# Altium integrated library Altium_SMSI (rev19b).IntLib: 156 symbols (part 2 of 2)
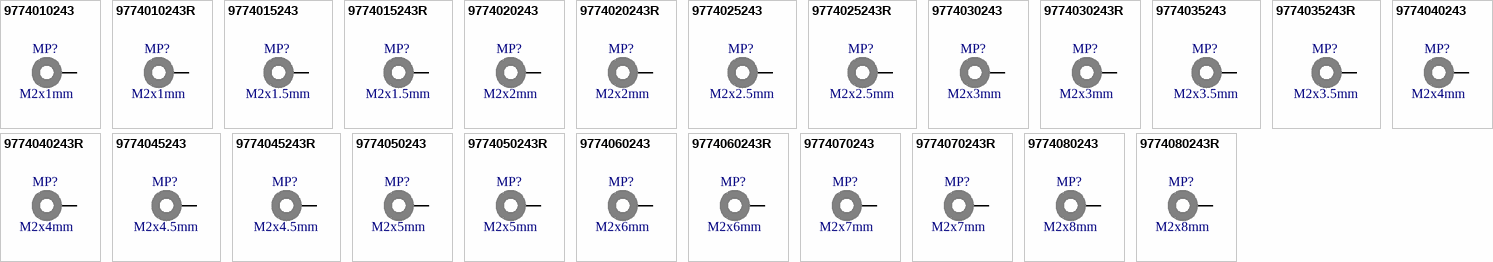
[diagram p6: symbols 9774010243 to 9774080243R]

## 9774010243
designator MP?, comment M2x1mm
WA-SMSI SMT Steel Spacer, OD4.35mm, M2x1mm; Part Number: 9774010243; Inner Diameter: 2.8mm; Outer Diameter: 4.35mm; Surface: Tin; Thread: M2; ComponentLink1Description: Manufacturer; ComponentLink1URL: http://www.we-online.de; ComponentLink2Description: Datasheet; ComponentLink2URL: https://katalog.we-online.com/em/datasheet/9774010243.pdf; Mounting Technology: SMT; Packaging: Bulk; Length: 1mm; Inner Thread Length: -; Operating Temperature: -55 to +150degC; Publisher: Wurth Elektronik; Published Date: September 2019; Material: Steel
footprint 9774010243
pins: 1

## 9774010243R
designator MP?, comment M2x1mm
WA-SMSI SMT Steel Spacer, OD4.35mm, M2x1mm; Part Number: 9774010243R; Inner Diameter: 2.8mm; Outer Diameter: 4.35mm; Surface: Tin; Thread: M2; ComponentLink1Description: Manufacturer; ComponentLink1URL: http://www.we-online.de; ComponentLink2Description: Datasheet; ComponentLink2URL: https://katalog.we-online.com/em/datasheet/9774010243R.pdf; Mounting Technology: SMT; Packaging: Tape and Reel; Length: 1mm; Inner Thread Length: -; Operating Temperature: -55 to +150degC; Publisher: Wurth Elektronik; Published Date: September 2019; Material: Steel
footprint 9774010243
pins: 1

## 9774015243
designator MP?, comment M2x1.5mm
WA-SMSI SMT Steel Spacer, OD4.35mm, M2x1.5mm; Part Number: 9774015243; Inner Diameter: 2.8mm; Outer Diameter: 4.35mm; Surface: Tin; Thread: M2; ComponentLink1Description: Manufacturer; ComponentLink1URL: http://www.we-online.de; ComponentLink2Description: Datasheet; ComponentLink2URL: https://katalog.we-online.com/em/datasheet/9774015243.pdf; Mounting Technology: SMT; Packaging: Bulk; Length: 1.5mm; Inner Thread Length: -; Operating Temperature: -55 to +150degC; Publisher: Wurth Elektronik; Published Date: September 2019; Material: Steel
footprint 9774015243
pins: 1

## 9774015243R
designator MP?, comment M2x1.5mm
WA-SMSI SMT Steel Spacer, OD4.35mm, M2x1.5mm; Part Number: 9774015243R; Inner Diameter: 2.8mm; Outer Diameter: 4.35mm; Surface: Tin; Thread: M2; ComponentLink1Description: Manufacturer; ComponentLink1URL: http://www.we-online.de; ComponentLink2Description: Datasheet; ComponentLink2URL: https://katalog.we-online.com/em/datasheet/9774015243R.pdf; Mounting Technology: SMT; Packaging: Tape and Reel; Length: 1.5mm; Inner Thread Length: -; Operating Temperature: -55 to +150degC; Publisher: Wurth Elektronik; Published Date: September 2019; Material: Steel
footprint 9774015243
pins: 1

## 9774020243
designator MP?, comment M2x2mm
WA-SMSI SMT Steel Spacer, OD4.35mm, M2x2mm; Part Number: 9774020243; Inner Diameter: 2.8mm; Outer Diameter: 4.35mm; Surface: Tin; Thread: M2; ComponentLink1Description: Manufacturer; ComponentLink1URL: http://www.we-online.de; ComponentLink2Description: Datasheet; ComponentLink2URL: https://katalog.we-online.com/em/datasheet/9774020243.pdf; Mounting Technology: SMT; Packaging: Bulk; Length: 2mm; Inner Thread Length: -; Operating Temperature: -55 to +150degC; Publisher: Wurth Elektronik; Published Date: September 2019; Material: Steel
footprint 9774020243
pins: 1

## 9774020243R
designator MP?, comment M2x2mm
WA-SMSI SMT Steel Spacer, OD4.35mm, M2x2mm; Part Number: 9774020243R; Inner Diameter: 2.8mm; Outer Diameter: 4.35mm; Surface: Tin; Thread: M2; ComponentLink1Description: Manufacturer; ComponentLink1URL: http://www.we-online.de; ComponentLink2Description: Datasheet; ComponentLink2URL: https://katalog.we-online.com/em/datasheet/9774020243R.pdf; Mounting Technology: SMT; Packaging: Tape and Reel; Length: 2mm; Inner Thread Length: -; Operating Temperature: -55 to +150degC; Publisher: Wurth Elektronik; Published Date: September 2019; Material: Steel
footprint 9774020243
pins: 1

## 9774025243
designator MP?, comment M2x2.5mm
WA-SMSI SMT Steel Spacer, OD4.35mm, M2x2.5mm; Part Number: 9774025243; Inner Diameter: 2.8mm; Outer Diameter: 4.35mm; Surface: Tin; Thread: M2; ComponentLink1Description: Manufacturer; ComponentLink1URL: http://www.we-online.de; ComponentLink2Description: Datasheet; ComponentLink2URL: https://katalog.we-online.com/em/datasheet/9774025243.pdf; Mounting Technology: SMT; Packaging: Bulk; Length: 2.5mm; Inner Thread Length: -; Operating Temperature: -55 to +150degC; Publisher: Wurth Elektronik; Published Date: September 2019; Material: Steel
footprint 9774025243
pins: 1

## 9774025243R
designator MP?, comment M2x2.5mm
WA-SMSI SMT Steel Spacer, OD4.35mm, M2x2.5mm; Part Number: 9774025243R; Inner Diameter: 2.8mm; Outer Diameter: 4.35mm; Surface: Tin; Thread: M2; ComponentLink1Description: Manufacturer; ComponentLink1URL: http://www.we-online.de; ComponentLink2Description: Datasheet; ComponentLink2URL: https://katalog.we-online.com/em/datasheet/9774025243R.pdf; Mounting Technology: SMT; Packaging: Tape and Reel; Length: 2.5mm; Inner Thread Length: -; Operating Temperature: -55 to +150degC; Publisher: Wurth Elektronik; Published Date: September 2019; Material: Steel
footprint 9774025243
pins: 1

## 9774030243
designator MP?, comment M2x3mm
WA-SMSI SMT Steel Spacer, OD4.35mm, M2x3mm; Part Number: 9774030243; Inner Diameter: 2.8mm; Outer Diameter: 4.35mm; Surface: Tin; Thread: M2; ComponentLink1Description: Manufacturer; ComponentLink1URL: http://www.we-online.de; ComponentLink2Description: Datasheet; ComponentLink2URL: https://katalog.we-online.com/em/datasheet/9774030243.pdf; Mounting Technology: SMT; Packaging: Bulk; Length: 3mm; Inner Thread Length: -; Operating Temperature: -55 to +150degC; Publisher: Wurth Elektronik; Published Date: September 2019; Material: Steel
footprint 9774030243
pins: 1

## 9774030243R
designator MP?, comment M2x3mm
WA-SMSI SMT Steel Spacer, OD4.35mm, M2x3mm; Part Number: 9774030243R; Inner Diameter: 2.8mm; Outer Diameter: 4.35mm; Surface: Tin; Thread: M2; ComponentLink1Description: Manufacturer; ComponentLink1URL: http://www.we-online.de; ComponentLink2Description: Datasheet; ComponentLink2URL: https://katalog.we-online.com/em/datasheet/9774030243R.pdf; Mounting Technology: SMT; Packaging: Tape and Reel; Length: 3mm; Inner Thread Length: -; Operating Temperature: -55 to +150degC; Publisher: Wurth Elektronik; Published Date: September 2019; Material: Steel
footprint 9774030243
pins: 1

## 9774035243
designator MP?, comment M2x3.5mm
WA-SMSI SMT Steel Spacer, OD4.35mm, M2x3.5mm; Part Number: 9774035243; Inner Diameter: 2.8mm; Outer Diameter: 4.35mm; Surface: Tin; Thread: M2; ComponentLink1Description: Manufacturer; ComponentLink1URL: http://www.we-online.de; ComponentLink2Description: Datasheet; ComponentLink2URL: https://katalog.we-online.com/em/datasheet/9774035243.pdf; Mounting Technology: SMT; Packaging: Bulk; Length: 3.5mm; Inner Thread Length: -; Operating Temperature: -55 to +150degC; Publisher: Wurth Elektronik; Published Date: September 2019; Material: Steel
footprint 9774035243
pins: 1

## 9774035243R
designator MP?, comment M2x3.5mm
WA-SMSI SMT Steel Spacer, OD4.35mm, M2x3.5mm; Part Number: 9774035243R; Inner Diameter: 2.8mm; Outer Diameter: 4.35mm; Surface: Tin; Thread: M2; ComponentLink1Description: Manufacturer; ComponentLink1URL: http://www.we-online.de; ComponentLink2Description: Datasheet; ComponentLink2URL: https://katalog.we-online.com/em/datasheet/9774035243R.pdf; Mounting Technology: SMT; Packaging: Tape and Reel; Length: 3.5mm; Inner Thread Length: -; Operating Temperature: -55 to +150degC; Publisher: Wurth Elektronik; Published Date: September 2019; Material: Steel
footprint 9774035243
pins: 1

## 9774040243
designator MP?, comment M2x4mm
WA-SMSI SMT Steel Spacer, OD4.35mm, M2x4mm; Part Number: 9774040243; Inner Diameter: 2.8mm; Outer Diameter: 4.35mm; Surface: Tin; Thread: M2; ComponentLink1Description: Manufacturer; ComponentLink1URL: http://www.we-online.de; ComponentLink2Description: Datasheet; ComponentLink2URL: https://katalog.we-online.com/em/datasheet/9774040243.pdf; Mounting Technology: SMT; Packaging: Bulk; Length: 4mm; Inner Thread Length: -; Operating Temperature: -55 to +150degC; Publisher: Wurth Elektronik; Published Date: September 2019; Material: Steel
footprint 9774040243
pins: 1

## 9774040243R
designator MP?, comment M2x4mm
WA-SMSI SMT Steel Spacer, OD4.35mm, M2x4mm; Part Number: 9774040243R; Inner Diameter: 2.8mm; Outer Diameter: 4.35mm; Surface: Tin; Thread: M2; ComponentLink1Description: Manufacturer; ComponentLink1URL: http://www.we-online.de; ComponentLink2Description: Datasheet; ComponentLink2URL: https://katalog.we-online.com/em/datasheet/9774040243R.pdf; Mounting Technology: SMT; Packaging: Tape and Reel; Length: 4mm; Inner Thread Length: -; Operating Temperature: -55 to +150degC; Publisher: Wurth Elektronik; Published Date: September 2019; Material: Steel
footprint 9774040243
pins: 1

## 9774045243
designator MP?, comment M2x4.5mm
WA-SMSI SMT Steel Spacer, OD4.35mm, M2x4.5mm; Part Number: 9774045243; Inner Diameter: 2.8mm; Outer Diameter: 4.35mm; Surface: Tin; Thread: M2; ComponentLink1Description: Manufacturer; ComponentLink1URL: http://www.we-online.de; ComponentLink2Description: Datasheet; ComponentLink2URL: https://katalog.we-online.com/em/datasheet/9774045243.pdf; Mounting Technology: SMT; Packaging: Bulk; Length: 4.5mm; Inner Thread Length: -; Operating Temperature: -55 to +150degC; Publisher: Wurth Elektronik; Published Date: September 2019; Material: Steel
footprint 9774045243
pins: 1

## 9774045243R
designator MP?, comment M2x4.5mm
WA-SMSI SMT Steel Spacer, OD4.35mm, M2x4.5mm; Part Number: 9774045243R; Inner Diameter: 2.8mm; Outer Diameter: 4.35mm; Surface: Tin; Thread: M2; ComponentLink1Description: Manufacturer; ComponentLink1URL: http://www.we-online.de; ComponentLink2Description: Datasheet; ComponentLink2URL: https://katalog.we-online.com/em/datasheet/9774045243R.pdf; Mounting Technology: SMT; Packaging: Tape and Reel; Length: 4.5mm; Inner Thread Length: -; Operating Temperature: -55 to +150degC; Publisher: Wurth Elektronik; Published Date: September 2019; Material: Steel
footprint 9774045243
pins: 1

## 9774050243
designator MP?, comment M2x5mm
WA-SMSI SMT Steel Spacer, OD4.35mm, M2x5mm; Part Number: 9774050243; Inner Diameter: 2.8mm; Outer Diameter: 4.35mm; Surface: Tin; Thread: M2; ComponentLink1Description: Manufacturer; ComponentLink1URL: http://www.we-online.de; ComponentLink2Description: Datasheet; ComponentLink2URL: https://katalog.we-online.com/em/datasheet/9774050243.pdf; Mounting Technology: SMT; Packaging: Bulk; Length: 5mm; Inner Thread Length: -; Operating Temperature: -55 to +150degC; Publisher: Wurth Elektronik; Published Date: September 2019; Material: Steel
footprint 9774050243
pins: 1

## 9774050243R
designator MP?, comment M2x5mm
WA-SMSI SMT Steel Spacer, OD4.35mm, M2x5mm; Part Number: 9774050243R; Inner Diameter: 2.8mm; Outer Diameter: 4.35mm; Surface: Tin; Thread: M2; ComponentLink1Description: Manufacturer; ComponentLink1URL: http://www.we-online.de; ComponentLink2Description: Datasheet; ComponentLink2URL: https://katalog.we-online.com/em/datasheet/9774050243R.pdf; Mounting Technology: SMT; Packaging: Tape and Reel; Length: 5mm; Inner Thread Length: -; Operating Temperature: -55 to +150degC; Publisher: Wurth Elektronik; Published Date: September 2019; Material: Steel
footprint 9774050243
pins: 1

## 9774060243
designator MP?, comment M2x6mm
WA-SMSI SMT Steel Spacer, OD4.35mm, M2x6mm; Part Number: 9774060243; Inner Diameter: 2.8mm; Outer Diameter: 4.35mm; Surface: Tin; Thread: M2; ComponentLink1Description: Manufacturer; ComponentLink1URL: http://www.we-online.de; ComponentLink2Description: Datasheet; ComponentLink2URL: https://katalog.we-online.com/em/datasheet/9774060243.pdf; Mounting Technology: SMT; Packaging: Bulk; Length: 6mm; Inner Thread Length: -; Operating Temperature: -55 to +150degC; Publisher: Wurth Elektronik; Published Date: September 2019; Material: Steel
footprint 9774060243
pins: 1

## 9774060243R
designator MP?, comment M2x6mm
WA-SMSI SMT Steel Spacer, OD4.35mm, M2x6mm; Part Number: 9774060243R; Inner Diameter: 2.8mm; Outer Diameter: 4.35mm; Surface: Tin; Thread: M2; ComponentLink1Description: Manufacturer; ComponentLink1URL: http://www.we-online.de; ComponentLink2Description: Datasheet; ComponentLink2URL: https://katalog.we-online.com/em/datasheet/9774060243R.pdf; Mounting Technology: SMT; Packaging: Tape and Reel; Length: 6mm; Inner Thread Length: -; Operating Temperature: -55 to +150degC; Publisher: Wurth Elektronik; Published Date: September 2019; Material: Steel
footprint 9774060243
pins: 1

## 9774070243
designator MP?, comment M2x7mm
WA-SMSI SMT Steel Spacer, OD4.35mm, M2x7mm; Part Number: 9774070243; Inner Diameter: 2.8mm; Outer Diameter: 4.35mm; Surface: Tin; Thread: M2; ComponentLink1Description: Manufacturer; ComponentLink1URL: http://www.we-online.de; ComponentLink2Description: Datasheet; ComponentLink2URL: https://katalog.we-online.com/em/datasheet/9774070243.pdf; Mounting Technology: SMT; Packaging: Bulk; Length: 7mm; Inner Thread Length: -; Operating Temperature: -55 to +150degC; Publisher: Wurth Elektronik; Published Date: September 2019; Material: Steel
footprint 9774070243
pins: 1

## 9774070243R
designator MP?, comment M2x7mm
WA-SMSI SMT Steel Spacer, OD4.35mm, M2x7mm; Part Number: 9774070243R; Inner Diameter: 2.8mm; Outer Diameter: 4.35mm; Surface: Tin; Thread: M2; ComponentLink1Description: Manufacturer; ComponentLink1URL: http://www.we-online.de; ComponentLink2Description: Datasheet; ComponentLink2URL: https://katalog.we-online.com/em/datasheet/9774070243R.pdf; Mounting Technology: SMT; Packaging: Tape and Reel; Length: 7mm; Inner Thread Length: -; Operating Temperature: -55 to +150degC; Publisher: Wurth Elektronik; Published Date: September 2019; Material: Steel
footprint 9774070243
pins: 1

## 9774080243
designator MP?, comment M2x8mm
WA-SMSI SMT Steel Spacer, OD4.35mm, M2x8mm; Part Number: 9774080243; Inner Diameter: 2.8mm; Outer Diameter: 4.35mm; Surface: Tin; Thread: M2; ComponentLink1Description: Manufacturer; ComponentLink1URL: http://www.we-online.de; ComponentLink2Description: Datasheet; ComponentLink2URL: https://katalog.we-online.com/em/datasheet/9774080243.pdf; Mounting Technology: SMT; Packaging: Bulk; Length: 8mm; Inner Thread Length: -; Operating Temperature: -55 to +150degC; Publisher: Wurth Elektronik; Published Date: September 2019; Material: Steel
footprint 9774080243
pins: 1

## 9774080243R
designator MP?, comment M2x8mm
WA-SMSI SMT Steel Spacer, OD4.35mm, M2x8mm; Part Number: 9774080243R; Inner Diameter: 2.8mm; Outer Diameter: 4.35mm; Surface: Tin; Thread: M2; ComponentLink1Description: Manufacturer; ComponentLink1URL: http://www.we-online.de; ComponentLink2Description: Datasheet; ComponentLink2URL: https://katalog.we-online.com/em/datasheet/9774080243R.pdf; Mounting Technology: SMT; Packaging: Tape and Reel; Length: 8mm; Inner Thread Length: -; Operating Temperature: -55 to +150degC; Publisher: Wurth Elektronik; Published Date: September 2019; Material: Steel
footprint 9774080243
pins: 1


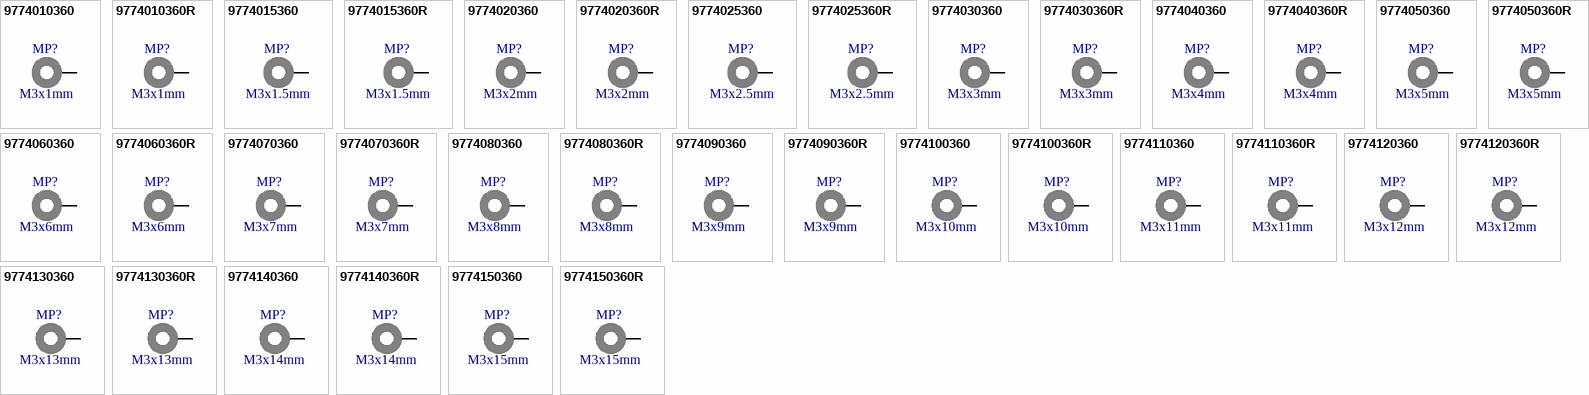
[diagram p4: symbols 9774010360 to 9774150360R]

## 9774010360
designator MP?, comment M3x1mm
WA-SMSI SMT Steel Spacer, OD6mm, M3x1mm; Part Number: 9774010360; Inner Diameter: 4.2mm; Outer Diameter: 6mm; Surface: Tin; Thread: M3; ComponentLink1Description: Manufacturer; ComponentLink1URL: http://www.we-online.de; ComponentLink2Description: Datasheet; ComponentLink2URL: https://katalog.we-online.com/em/datasheet/9774010360.pdf; Mounting Technology: SMT; Packaging: Bulk; Length: 1mm; Inner Thread Length: -; Operating Temperature: -55 to +150degC; Publisher: Wurth Elektronik; Published Date: September 2019; Material: Steel
footprint 9774010360
pins: 1

## 9774010360R
designator MP?, comment M3x1mm
WA-SMSI SMT Steel Spacer, OD6mm, M3x1mm; Part Number: 9774010360R; Inner Diameter: 4.2mm; Outer Diameter: 6mm; Surface: Tin; Thread: M3; ComponentLink1Description: Manufacturer; ComponentLink1URL: http://www.we-online.de; ComponentLink2Description: Datasheet; ComponentLink2URL: https://katalog.we-online.com/em/datasheet/9774010360R.pdf; Mounting Technology: SMT; Packaging: Tape and Reel; Length: 1mm; Inner Thread Length: -; Operating Temperature: -55 to +150degC; Publisher: Wurth Elektronik; Published Date: September 2019; Material: Steel
footprint 9774010360
pins: 1

## 9774015360
designator MP?, comment M3x1.5mm
WA-SMSI SMT Steel Spacer, OD6mm, M3x1.5mm; Part Number: 9774015360; Inner Diameter: 4.2mm; Outer Diameter: 6mm; Surface: Tin; Thread: M3; ComponentLink1Description: Manufacturer; ComponentLink1URL: http://www.we-online.de; ComponentLink2Description: Datasheet; ComponentLink2URL: https://katalog.we-online.com/em/datasheet/9774015360.pdf; Mounting Technology: SMT; Packaging: Bulk; Length: 1.5mm; Inner Thread Length: -; Operating Temperature: -55 to +150degC; Publisher: Wurth Elektronik; Published Date: September 2019; Material: Steel
footprint 9774015360
pins: 1

## 9774015360R
designator MP?, comment M3x1.5mm
WA-SMSI SMT Steel Spacer, OD6mm, M3x1.5mm; Part Number: 9774015360R; Inner Diameter: 4.2mm; Outer Diameter: 6mm; Surface: Tin; Thread: M3; ComponentLink1Description: Manufacturer; ComponentLink1URL: http://www.we-online.de; ComponentLink2Description: Datasheet; ComponentLink2URL: https://katalog.we-online.com/em/datasheet/9774015360R.pdf; Mounting Technology: SMT; Packaging: Tape and Reel; Length: 1.5mm; Inner Thread Length: -; Operating Temperature: -55 to +150degC; Publisher: Wurth Elektronik; Published Date: September 2019; Material: Steel
footprint 9774015360
pins: 1

## 9774020360
designator MP?, comment M3x2mm
WA-SMSI SMT Steel Spacer, OD6mm, M3x2mm; Part Number: 9774020360; Inner Diameter: 4.2mm; Outer Diameter: 6mm; Surface: Tin; Thread: M3; ComponentLink1Description: Manufacturer; ComponentLink1URL: http://www.we-online.de; ComponentLink2Description: Datasheet; ComponentLink2URL: https://katalog.we-online.com/em/datasheet/9774020360.pdf; Mounting Technology: SMT; Packaging: Bulk; Length: 2mm; Inner Thread Length: -; Operating Temperature: -55 to +150degC; Publisher: Wurth Elektronik; Published Date: September 2019; Material: Steel
footprint 9774020360
pins: 1

## 9774020360R
designator MP?, comment M3x2mm
WA-SMSI SMT Steel Spacer, OD6mm, M3x2mm; Part Number: 9774020360R; Inner Diameter: 4.2mm; Outer Diameter: 6mm; Surface: Tin; Thread: M3; ComponentLink1Description: Manufacturer; ComponentLink1URL: http://www.we-online.de; ComponentLink2Description: Datasheet; ComponentLink2URL: https://katalog.we-online.com/em/datasheet/9774020360R.pdf; Mounting Technology: SMT; Packaging: Tape and Reel; Length: 2mm; Inner Thread Length: -; Operating Temperature: -55 to +150degC; Publisher: Wurth Elektronik; Published Date: September 2019; Material: Steel
footprint 9774020360
pins: 1

## 9774025360
designator MP?, comment M3x2.5mm
WA-SMSI SMT Steel Spacer, OD6mm, M3x2.5mm; Part Number: 9774025360; Inner Diameter: 4.2mm; Outer Diameter: 6mm; Surface: Tin; Thread: M3; ComponentLink1Description: Manufacturer; ComponentLink1URL: http://www.we-online.de; ComponentLink2Description: Datasheet; ComponentLink2URL: https://katalog.we-online.com/em/datasheet/9774025360.pdf; Mounting Technology: SMT; Packaging: Bulk; Length: 2.5mm; Inner Thread Length: -; Operating Temperature: -55 to +150degC; Publisher: Wurth Elektronik; Published Date: September 2019; Material: Steel
footprint 9774025360
pins: 1

## 9774025360R
designator MP?, comment M3x2.5mm
WA-SMSI SMT Steel Spacer, OD6mm, M3x2.5mm; Part Number: 9774025360R; Inner Diameter: 4.2mm; Outer Diameter: 6mm; Surface: Tin; Thread: M3; ComponentLink1Description: Manufacturer; ComponentLink1URL: http://www.we-online.de; ComponentLink2Description: Datasheet; ComponentLink2URL: https://katalog.we-online.com/em/datasheet/9774025360R.pdf; Mounting Technology: SMT; Packaging: Tape and Reel; Length: 2.5mm; Inner Thread Length: -; Operating Temperature: -55 to +150degC; Publisher: Wurth Elektronik; Published Date: September 2019; Material: Steel
footprint 9774025360
pins: 1

## 9774030360
designator MP?, comment M3x3mm
WA-SMSI SMT Steel Spacer, OD6mm, M3x3mm; Part Number: 9774030360; Inner Diameter: 4.2mm; Outer Diameter: 6mm; Surface: Tin; Thread: M3; ComponentLink1Description: Manufacturer; ComponentLink1URL: http://www.we-online.de; ComponentLink2Description: Datasheet; ComponentLink2URL: https://katalog.we-online.com/em/datasheet/9774030360.pdf; Mounting Technology: SMT; Packaging: Bulk; Length: 3mm; Inner Thread Length: -; Operating Temperature: -55 to +150degC; Publisher: Wurth Elektronik; Published Date: September 2019; Material: Steel
footprint 9774030360
pins: 1

## 9774030360R
designator MP?, comment M3x3mm
WA-SMSI SMT Steel Spacer, OD6mm, M3x3mm; Part Number: 9774030360R; Inner Diameter: 4.2mm; Outer Diameter: 6mm; Surface: Tin; Thread: M3; ComponentLink1Description: Manufacturer; ComponentLink1URL: http://www.we-online.de; ComponentLink2Description: Datasheet; ComponentLink2URL: https://katalog.we-online.com/em/datasheet/9774030360R.pdf; Mounting Technology: SMT; Packaging: Tape and Reel; Length: 3mm; Inner Thread Length: -; Operating Temperature: -55 to +150degC; Publisher: Wurth Elektronik; Published Date: September 2019; Material: Steel
footprint 9774030360
pins: 1

## 9774040360
designator MP?, comment M3x4mm
WA-SMSI SMT Steel Spacer, OD6mm, M3x4mm; Part Number: 9774040360; Inner Diameter: 4.2mm; Outer Diameter: 6mm; Surface: Tin; Thread: M3; ComponentLink1Description: Manufacturer; ComponentLink1URL: http://www.we-online.de; ComponentLink2Description: Datasheet; ComponentLink2URL: https://katalog.we-online.com/em/datasheet/9774040360.pdf; Mounting Technology: SMT; Packaging: Bulk; Length: 4mm; Inner Thread Length: -; Operating Temperature: -55 to +150degC; Publisher: Wurth Elektronik; Published Date: September 2019; Material: Steel
footprint 9774040360
pins: 1

## 9774040360R
designator MP?, comment M3x4mm
WA-SMSI SMT Steel Spacer, OD6mm, M3x4mm; Part Number: 9774040360R; Inner Diameter: 4.2mm; Outer Diameter: 6mm; Surface: Tin; Thread: M3; ComponentLink1Description: Manufacturer; ComponentLink1URL: http://www.we-online.de; ComponentLink2Description: Datasheet; ComponentLink2URL: https://katalog.we-online.com/em/datasheet/9774040360R.pdf; Mounting Technology: SMT; Packaging: Tape and Reel; Length: 4mm; Inner Thread Length: -; Operating Temperature: -55 to +150degC; Publisher: Wurth Elektronik; Published Date: September 2019; Material: Steel
footprint 9774040360
pins: 1

## 9774050360
designator MP?, comment M3x5mm
WA-SMSI SMT Steel Spacer, OD6mm, M3x5mm; Part Number: 9774050360; Inner Diameter: 4.2mm; Outer Diameter: 6mm; Surface: Tin; Thread: M3; ComponentLink1Description: Manufacturer; ComponentLink1URL: http://www.we-online.de; ComponentLink2Description: Datasheet; ComponentLink2URL: https://katalog.we-online.com/em/datasheet/9774050360.pdf; Mounting Technology: SMT; Packaging: Bulk; Length: 5mm; Inner Thread Length: -; Operating Temperature: -55 to +150degC; Publisher: Wurth Elektronik; Published Date: September 2019; Material: Steel
footprint 9774050360
pins: 1

## 9774050360R
designator MP?, comment M3x5mm
WA-SMSI SMT Steel Spacer, OD6mm, M3x5mm; Part Number: 9774050360R; Inner Diameter: 4.2mm; Outer Diameter: 6mm; Surface: Tin; Thread: M3; ComponentLink1Description: Manufacturer; ComponentLink1URL: http://www.we-online.de; ComponentLink2Description: Datasheet; ComponentLink2URL: https://katalog.we-online.com/em/datasheet/9774050360R.pdf; Mounting Technology: SMT; Packaging: Tape and Reel; Length: 5mm; Inner Thread Length: -; Operating Temperature: -55 to +150degC; Publisher: Wurth Elektronik; Published Date: September 2019; Material: Steel
footprint 9774050360
pins: 1

## 9774060360
designator MP?, comment M3x6mm
WA-SMSI SMT Steel Spacer, OD6mm, M3x6mm; Part Number: 9774060360; Inner Diameter: 4.2mm; Outer Diameter: 6mm; Surface: Tin; Thread: M3; ComponentLink1Description: Manufacturer; ComponentLink1URL: http://www.we-online.de; ComponentLink2Description: Datasheet; ComponentLink2URL: https://katalog.we-online.com/em/datasheet/9774060360.pdf; Mounting Technology: SMT; Packaging: Bulk; Length: 6mm; Inner Thread Length: -; Operating Temperature: -55 to +150degC; Publisher: Wurth Elektronik; Published Date: September 2019; Material: Steel
footprint 9774060360
pins: 1

## 9774060360R
designator MP?, comment M3x6mm
WA-SMSI SMT Steel Spacer, OD6mm, M3x6mm; Part Number: 9774060360R; Inner Diameter: 4.2mm; Outer Diameter: 6mm; Surface: Tin; Thread: M3; ComponentLink1Description: Manufacturer; ComponentLink1URL: http://www.we-online.de; ComponentLink2Description: Datasheet; ComponentLink2URL: https://katalog.we-online.com/em/datasheet/9774060360R.pdf; Mounting Technology: SMT; Packaging: Tape and Reel; Length: 6mm; Inner Thread Length: -; Operating Temperature: -55 to +150degC; Publisher: Wurth Elektronik; Published Date: September 2019; Material: Steel
footprint 9774060360
pins: 1

## 9774070360
designator MP?, comment M3x7mm
WA-SMSI SMT Steel Spacer, OD6mm, M3x7mm; Part Number: 9774070360; Inner Diameter: 4.2mm; Outer Diameter: 6mm; Surface: Tin; Thread: M3; ComponentLink1Description: Manufacturer; ComponentLink1URL: http://www.we-online.de; ComponentLink2Description: Datasheet; ComponentLink2URL: https://katalog.we-online.com/em/datasheet/9774070360.pdf; Mounting Technology: SMT; Packaging: Bulk; Length: 7mm; Inner Thread Length: -; Operating Temperature: -55 to +150degC; Publisher: Wurth Elektronik; Published Date: September 2019; Material: Steel
footprint 9774070360
pins: 1

## 9774070360R
designator MP?, comment M3x7mm
WA-SMSI SMT Steel Spacer, OD6mm, M3x7mm; Part Number: 9774070360R; Inner Diameter: 4.2mm; Outer Diameter: 6mm; Surface: Tin; Thread: M3; ComponentLink1Description: Manufacturer; ComponentLink1URL: http://www.we-online.de; ComponentLink2Description: Datasheet; ComponentLink2URL: https://katalog.we-online.com/em/datasheet/9774070360R.pdf; Mounting Technology: SMT; Packaging: Tape and Reel; Length: 7mm; Inner Thread Length: -; Operating Temperature: -55 to +150degC; Publisher: Wurth Elektronik; Published Date: September 2019; Material: Steel
footprint 9774070360
pins: 1

## 9774080360
designator MP?, comment M3x8mm
WA-SMSI SMT Steel Spacer, OD6mm, M3x8mm; Part Number: 9774080360; Inner Diameter: 4.2mm; Outer Diameter: 6mm; Surface: Tin; Thread: M3; ComponentLink1Description: Manufacturer; ComponentLink1URL: http://www.we-online.de; ComponentLink2Description: Datasheet; ComponentLink2URL: https://katalog.we-online.com/em/datasheet/9774080360.pdf; Mounting Technology: SMT; Packaging: Bulk; Length: 8mm; Inner Thread Length: -; Operating Temperature: -55 to +150degC; Publisher: Wurth Elektronik; Published Date: September 2019; Material: Steel
footprint 9774080360
pins: 1

## 9774080360R
designator MP?, comment M3x8mm
WA-SMSI SMT Steel Spacer, OD6mm, M3x8mm; Part Number: 9774080360R; Inner Diameter: 4.2mm; Outer Diameter: 6mm; Surface: Tin; Thread: M3; ComponentLink1Description: Manufacturer; ComponentLink1URL: http://www.we-online.de; ComponentLink2Description: Datasheet; ComponentLink2URL: https://katalog.we-online.com/em/datasheet/9774080360R.pdf; Mounting Technology: SMT; Packaging: Tape and Reel; Length: 8mm; Inner Thread Length: -; Operating Temperature: -55 to +150degC; Publisher: Wurth Elektronik; Published Date: September 2019; Material: Steel
footprint 9774080360
pins: 1

## 9774090360
designator MP?, comment M3x9mm
WA-SMSI SMT Steel Spacer, OD6mm, M3x9mm; Part Number: 9774090360; Inner Diameter: 4.2mm; Outer Diameter: 6mm; Surface: Tin; Thread: M3; ComponentLink1Description: Manufacturer; ComponentLink1URL: http://www.we-online.de; ComponentLink2Description: Datasheet; ComponentLink2URL: https://katalog.we-online.com/em/datasheet/9774090360.pdf; Mounting Technology: SMT; Packaging: Bulk; Length: 9mm; Inner Thread Length: -; Operating Temperature: -55 to +150degC; Publisher: Wurth Elektronik; Published Date: September 2019; Material: Steel
footprint 9774090360
pins: 1

## 9774090360R
designator MP?, comment M3x9mm
WA-SMSI SMT Steel Spacer, OD6mm, M3x9mm; Part Number: 9774090360R; Inner Diameter: 4.2mm; Outer Diameter: 6mm; Surface: Tin; Thread: M3; ComponentLink1Description: Manufacturer; ComponentLink1URL: http://www.we-online.de; ComponentLink2Description: Datasheet; ComponentLink2URL: https://katalog.we-online.com/em/datasheet/9774090360R.pdf; Mounting Technology: SMT; Packaging: Tape and Reel; Length: 9mm; Inner Thread Length: -; Operating Temperature: -55 to +150degC; Publisher: Wurth Elektronik; Published Date: September 2019; Material: Steel
footprint 9774090360
pins: 1

## 9774100360
designator MP?, comment M3x10mm
WA-SMSI SMT Steel Spacer, OD6mm, M3x10mm; Part Number: 9774100360; Inner Diameter: 4.2mm; Outer Diameter: 6mm; Surface: Tin; Thread: M3; ComponentLink1Description: Manufacturer; ComponentLink1URL: http://www.we-online.de; ComponentLink2Description: Datasheet; ComponentLink2URL: https://katalog.we-online.com/em/datasheet/9774100360.pdf; Mounting Technology: SMT; Packaging: Bulk; Length: 10mm; Inner Thread Length: -; Operating Temperature: -55 to +150degC; Publisher: Wurth Elektronik; Published Date: September 2019; Material: Steel
footprint 9774100360
pins: 1

## 9774100360R
designator MP?, comment M3x10mm
WA-SMSI SMT Steel Spacer, OD6mm, M3x10mm; Part Number: 9774100360R; Inner Diameter: 4.2mm; Outer Diameter: 6mm; Surface: Tin; Thread: M3; ComponentLink1Description: Manufacturer; ComponentLink1URL: http://www.we-online.de; ComponentLink2Description: Datasheet; ComponentLink2URL: https://katalog.we-online.com/em/datasheet/9774100360R.pdf; Mounting Technology: SMT; Packaging: Tape and Reel; Length: 10mm; Inner Thread Length: -; Operating Temperature: -55 to +150degC; Publisher: Wurth Elektronik; Published Date: September 2019; Material: Steel
footprint 9774100360
pins: 1

## 9774110360
designator MP?, comment M3x11mm
WA-SMSI SMT Steel Spacer, OD6mm, M3x11mm; Part Number: 9774110360; Inner Diameter: 4.2mm; Outer Diameter: 6mm; Surface: Tin; Thread: M3; ComponentLink1Description: Manufacturer; ComponentLink1URL: http://www.we-online.de; ComponentLink2Description: Datasheet; ComponentLink2URL: https://katalog.we-online.com/em/datasheet/9774110360.pdf; Mounting Technology: SMT; Packaging: Bulk; Length: 11mm; Inner Thread Length: -; Operating Temperature: -55 to +150degC; Publisher: Wurth Elektronik; Published Date: September 2019; Material: Steel
footprint 9774110360
pins: 1

## 9774110360R
designator MP?, comment M3x11mm
WA-SMSI SMT Steel Spacer, OD6mm, M3x11mm; Part Number: 9774110360R; Inner Diameter: 4.2mm; Outer Diameter: 6mm; Surface: Tin; Thread: M3; ComponentLink1Description: Manufacturer; ComponentLink1URL: http://www.we-online.de; ComponentLink2Description: Datasheet; ComponentLink2URL: https://katalog.we-online.com/em/datasheet/9774110360R.pdf; Mounting Technology: SMT; Packaging: Tape and Reel; Length: 11mm; Inner Thread Length: -; Operating Temperature: -55 to +150degC; Publisher: Wurth Elektronik; Published Date: September 2019; Material: Steel
footprint 9774110360
pins: 1

## 9774120360
designator MP?, comment M3x12mm
WA-SMSI SMT Steel Spacer, OD6mm, M3x12mm; Part Number: 9774120360; Inner Diameter: 4.2mm; Outer Diameter: 6mm; Surface: Tin; Thread: M3; ComponentLink1Description: Manufacturer; ComponentLink1URL: http://www.we-online.de; ComponentLink2Description: Datasheet; ComponentLink2URL: https://katalog.we-online.com/em/datasheet/9774120360.pdf; Mounting Technology: SMT; Packaging: Bulk; Length: 12mm; Inner Thread Length: -; Operating Temperature: -55 to +150degC; Publisher: Wurth Elektronik; Published Date: September 2019; Material: Steel
footprint 9774120360
pins: 1

## 9774120360R
designator MP?, comment M3x12mm
WA-SMSI SMT Steel Spacer, OD6mm, M3x12mm; Part Number: 9774120360R; Inner Diameter: 4.2mm; Outer Diameter: 6mm; Surface: Tin; Thread: M3; ComponentLink1Description: Manufacturer; ComponentLink1URL: http://www.we-online.de; ComponentLink2Description: Datasheet; ComponentLink2URL: https://katalog.we-online.com/em/datasheet/9774120360R.pdf; Mounting Technology: SMT; Packaging: Tape and Reel; Length: 12mm; Inner Thread Length: -; Operating Temperature: -55 to +150degC; Publisher: Wurth Elektronik; Published Date: September 2019; Material: Steel
footprint 9774120360
pins: 1

## 9774130360
designator MP?, comment M3x13mm
WA-SMSI SMT Steel Spacer, OD6mm, M3x13mm; Part Number: 9774130360; Inner Diameter: 4.2mm; Outer Diameter: 6mm; Surface: Tin; Thread: M3; ComponentLink1Description: Manufacturer; ComponentLink1URL: http://www.we-online.de; ComponentLink2Description: Datasheet; ComponentLink2URL: https://katalog.we-online.com/em/datasheet/9774130360.pdf; Mounting Technology: SMT; Packaging: Bulk; Length: 13mm; Inner Thread Length: -; Operating Temperature: -55 to +150degC; Publisher: Wurth Elektronik; Published Date: September 2019; Material: Steel
footprint 9774130360
pins: 1

## 9774130360R
designator MP?, comment M3x13mm
WA-SMSI SMT Steel Spacer, OD6mm, M3x13mm; Part Number: 9774130360R; Inner Diameter: 4.2mm; Outer Diameter: 6mm; Surface: Tin; Thread: M3; ComponentLink1Description: Manufacturer; ComponentLink1URL: http://www.we-online.de; ComponentLink2Description: Datasheet; ComponentLink2URL: https://katalog.we-online.com/em/datasheet/9774130360R.pdf; Mounting Technology: SMT; Packaging: Tape and Reel; Length: 13mm; Inner Thread Length: -; Operating Temperature: -55 to +150degC; Publisher: Wurth Elektronik; Published Date: September 2019; Material: Steel
footprint 9774130360
pins: 1

## 9774140360
designator MP?, comment M3x14mm
WA-SMSI SMT Steel Spacer, OD6mm, M3x14mm; Part Number: 9774140360; Inner Diameter: 4.2mm; Outer Diameter: 6mm; Surface: Tin; Thread: M3; ComponentLink1Description: Manufacturer; ComponentLink1URL: http://www.we-online.de; ComponentLink2Description: Datasheet; ComponentLink2URL: https://katalog.we-online.com/em/datasheet/9774140360.pdf; Mounting Technology: SMT; Packaging: Bulk; Length: 14mm; Inner Thread Length: -; Operating Temperature: -55 to +150degC; Publisher: Wurth Elektronik; Published Date: September 2019; Material: Steel
footprint 9774140360
pins: 1

## 9774140360R
designator MP?, comment M3x14mm
WA-SMSI SMT Steel Spacer, OD6mm, M3x14mm; Part Number: 9774140360R; Inner Diameter: 4.2mm; Outer Diameter: 6mm; Surface: Tin; Thread: M3; ComponentLink1Description: Manufacturer; ComponentLink1URL: http://www.we-online.de; ComponentLink2Description: Datasheet; ComponentLink2URL: https://katalog.we-online.com/em/datasheet/9774140360R.pdf; Mounting Technology: SMT; Packaging: Tape and Reel; Length: 14mm; Inner Thread Length: -; Operating Temperature: -55 to +150degC; Publisher: Wurth Elektronik; Published Date: September 2019; Material: Steel
footprint 9774140360
pins: 1

## 9774150360
designator MP?, comment M3x15mm
WA-SMSI SMT Steel Spacer, OD6mm, M3x15mm; Part Number: 9774150360; Inner Diameter: 4.2mm; Outer Diameter: 6mm; Surface: Tin; Thread: M3; ComponentLink1Description: Manufacturer; ComponentLink1URL: http://www.we-online.de; ComponentLink2Description: Datasheet; ComponentLink2URL: https://katalog.we-online.com/em/datasheet/9774150360.pdf; Mounting Technology: SMT; Packaging: Bulk; Length: 15mm; Inner Thread Length: -; Operating Temperature: -55 to +150degC; Publisher: Wurth Elektronik; Published Date: September 2019; Material: Steel
footprint 9774150360
pins: 1

## 9774150360R
designator MP?, comment M3x15mm
WA-SMSI SMT Steel Spacer, OD6mm, M3x15mm; Part Number: 9774150360R; Inner Diameter: 4.2mm; Outer Diameter: 6mm; Surface: Tin; Thread: M3; ComponentLink1Description: Manufacturer; ComponentLink1URL: http://www.we-online.de; ComponentLink2Description: Datasheet; ComponentLink2URL: https://katalog.we-online.com/em/datasheet/9774150360R.pdf; Mounting Technology: SMT; Packaging: Tape and Reel; Length: 15mm; Inner Thread Length: -; Operating Temperature: -55 to +150degC; Publisher: Wurth Elektronik; Published Date: September 2019; Material: Steel
footprint 9774150360
pins: 1


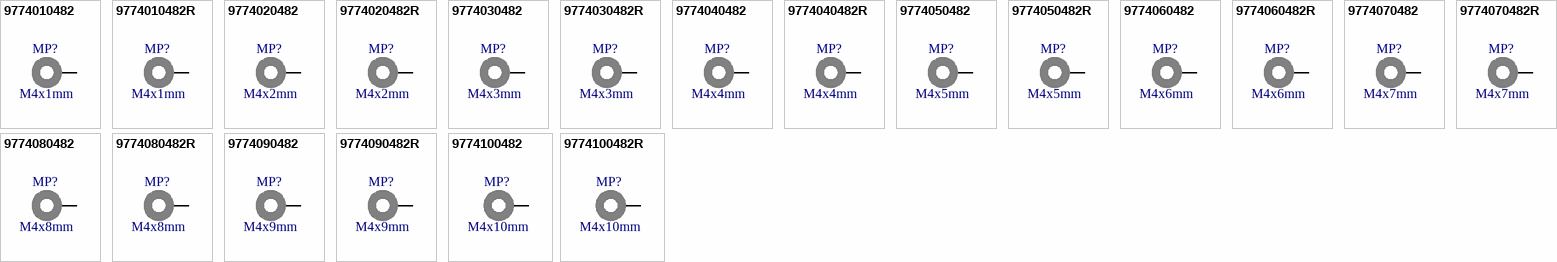
[diagram p5: symbols 9774010482 to 9774100482R]

## 9774010482
designator MP?, comment M4x1mm
WA-SMSI SMT Steel Spacer, OD8.2mm, M4x1mm; Part Number: 9774010482; Inner Diameter: 5.2mm; Outer Diameter: 8.2mm; Surface: Tin; Thread: M4; ComponentLink1Description: Manufacturer; ComponentLink1URL: http://www.we-online.de; ComponentLink2Description: Datasheet; ComponentLink2URL: https://katalog.we-online.com/em/datasheet/9774010482.pdf; Mounting Technology: SMT; Packaging: Bulk; Length: 1mm; Inner Thread Length: -; Operating Temperature: -55 to +150degC; Publisher: Wurth Elektronik; Published Date: September 2019; Material: Steel
footprint 9774010482
pins: 1

## 9774010482R
designator MP?, comment M4x1mm
WA-SMSI SMT Steel Spacer, OD8.2mm, M4x1mm; Part Number: 9774010482R; Inner Diameter: 5.2mm; Outer Diameter: 8.2mm; Surface: Tin; Thread: M4; ComponentLink1Description: Manufacturer; ComponentLink1URL: http://www.we-online.de; ComponentLink2Description: Datasheet; ComponentLink2URL: https://katalog.we-online.com/em/datasheet/9774010482R.pdf; Mounting Technology: SMT; Packaging: Tape and Reel; Length: 1mm; Inner Thread Length: -; Operating Temperature: -55 to +150degC; Publisher: Wurth Elektronik; Published Date: September 2019; Material: Steel
footprint 9774010482
pins: 1

## 9774020482
designator MP?, comment M4x2mm
WA-SMSI SMT Steel Spacer, OD8.2mm, M4x2mm; Part Number: 9774020482; Inner Diameter: 5.2mm; Outer Diameter: 8.2mm; Surface: Tin; Thread: M4; ComponentLink1Description: Manufacturer; ComponentLink1URL: http://www.we-online.de; ComponentLink2Description: Datasheet; ComponentLink2URL: https://katalog.we-online.com/em/datasheet/9774020482.pdf; Mounting Technology: SMT; Packaging: Bulk; Length: 2mm; Inner Thread Length: -; Operating Temperature: -55 to +150degC; Publisher: Wurth Elektronik; Published Date: September 2019; Material: Steel
footprint 9774020482
pins: 1

## 9774020482R
designator MP?, comment M4x2mm
WA-SMSI SMT Steel Spacer, OD8.2mm, M4x2mm; Part Number: 9774020482R; Inner Diameter: 5.2mm; Outer Diameter: 8.2mm; Surface: Tin; Thread: M4; ComponentLink1Description: Manufacturer; ComponentLink1URL: http://www.we-online.de; ComponentLink2Description: Datasheet; ComponentLink2URL: https://katalog.we-online.com/em/datasheet/9774020482R.pdf; Mounting Technology: SMT; Packaging: Tape and Reel; Length: 2mm; Inner Thread Length: -; Operating Temperature: -55 to +150degC; Publisher: Wurth Elektronik; Published Date: September 2019; Material: Steel
footprint 9774020482
pins: 1

## 9774030482
designator MP?, comment M4x3mm
WA-SMSI SMT Steel Spacer, OD8.2mm, M4x3mm; Part Number: 9774030482; Inner Diameter: 5.2mm; Outer Diameter: 8.2mm; Surface: Tin; Thread: M4; ComponentLink1Description: Manufacturer; ComponentLink1URL: http://www.we-online.de; ComponentLink2Description: Datasheet; ComponentLink2URL: https://katalog.we-online.com/em/datasheet/9774030482.pdf; Mounting Technology: SMT; Packaging: Bulk; Length: 3mm; Inner Thread Length: -; Operating Temperature: -55 to +150degC; Publisher: Wurth Elektronik; Published Date: September 2019; Material: Steel
footprint 9774030482
pins: 1

## 9774030482R
designator MP?, comment M4x3mm
WA-SMSI SMT Steel Spacer, OD8.2mm, M4x3mm; Part Number: 9774030482R; Inner Diameter: 5.2mm; Outer Diameter: 8.2mm; Surface: Tin; Thread: M4; ComponentLink1Description: Manufacturer; ComponentLink1URL: http://www.we-online.de; ComponentLink2Description: Datasheet; ComponentLink2URL: https://katalog.we-online.com/em/datasheet/9774030482R.pdf; Mounting Technology: SMT; Packaging: Tape and Reel; Length: 3mm; Inner Thread Length: -; Operating Temperature: -55 to +150degC; Publisher: Wurth Elektronik; Published Date: September 2019; Material: Steel
footprint 9774030482
pins: 1

## 9774040482
designator MP?, comment M4x4mm
WA-SMSI SMT Steel Spacer, OD8.2mm, M4x4mm; Part Number: 9774040482; Inner Diameter: 5.2mm; Outer Diameter: 8.2mm; Surface: Tin; Thread: M4; ComponentLink1Description: Manufacturer; ComponentLink1URL: http://www.we-online.de; ComponentLink2Description: Datasheet; ComponentLink2URL: https://katalog.we-online.com/em/datasheet/9774040482.pdf; Mounting Technology: SMT; Packaging: Bulk; Length: 4mm; Inner Thread Length: -; Operating Temperature: -55 to +150degC; Publisher: Wurth Elektronik; Published Date: September 2019; Material: Steel
footprint 9774040482
pins: 1

## 9774040482R
designator MP?, comment M4x4mm
WA-SMSI SMT Steel Spacer, OD8.2mm, M4x4mm; Part Number: 9774040482R; Inner Diameter: 5.2mm; Outer Diameter: 8.2mm; Surface: Tin; Thread: M4; ComponentLink1Description: Manufacturer; ComponentLink1URL: http://www.we-online.de; ComponentLink2Description: Datasheet; ComponentLink2URL: https://katalog.we-online.com/em/datasheet/9774040482R.pdf; Mounting Technology: SMT; Packaging: Tape and Reel; Length: 4mm; Inner Thread Length: -; Operating Temperature: -55 to +150degC; Publisher: Wurth Elektronik; Published Date: September 2019; Material: Steel
footprint 9774040482
pins: 1

## 9774050482
designator MP?, comment M4x5mm
WA-SMSI SMT Steel Spacer, OD8.2mm, M4x5mm; Part Number: 9774050482; Inner Diameter: 5.2mm; Outer Diameter: 8.2mm; Surface: Tin; Thread: M4; ComponentLink1Description: Manufacturer; ComponentLink1URL: http://www.we-online.de; ComponentLink2Description: Datasheet; ComponentLink2URL: https://katalog.we-online.com/em/datasheet/9774050482.pdf; Mounting Technology: SMT; Packaging: Bulk; Length: 5mm; Inner Thread Length: -; Operating Temperature: -55 to +150degC; Publisher: Wurth Elektronik; Published Date: September 2019; Material: Steel
footprint 9774050482
pins: 1

## 9774050482R
designator MP?, comment M4x5mm
WA-SMSI SMT Steel Spacer, OD8.2mm, M4x5mm; Part Number: 9774050482R; Inner Diameter: 5.2mm; Outer Diameter: 8.2mm; Surface: Tin; Thread: M4; ComponentLink1Description: Manufacturer; ComponentLink1URL: http://www.we-online.de; ComponentLink2Description: Datasheet; ComponentLink2URL: https://katalog.we-online.com/em/datasheet/9774050482R.pdf; Mounting Technology: SMT; Packaging: Tape and Reel; Length: 5mm; Inner Thread Length: -; Operating Temperature: -55 to +150degC; Publisher: Wurth Elektronik; Published Date: September 2019; Material: Steel
footprint 9774050482
pins: 1

## 9774060482
designator MP?, comment M4x6mm
WA-SMSI SMT Steel Spacer, OD8.2mm, M4x6mm; Part Number: 9774060482; Inner Diameter: 5.2mm; Outer Diameter: 8.2mm; Surface: Tin; Thread: M4; ComponentLink1Description: Manufacturer; ComponentLink1URL: http://www.we-online.de; ComponentLink2Description: Datasheet; ComponentLink2URL: https://katalog.we-online.com/em/datasheet/9774060482.pdf; Mounting Technology: SMT; Packaging: Bulk; Length: 6mm; Inner Thread Length: -; Operating Temperature: -55 to +150degC; Publisher: Wurth Elektronik; Published Date: September 2019; Material: Steel
footprint 9774060482
pins: 1

## 9774060482R
designator MP?, comment M4x6mm
WA-SMSI SMT Steel Spacer, OD8.2mm, M4x6mm; Part Number: 9774060482R; Inner Diameter: 5.2mm; Outer Diameter: 8.2mm; Surface: Tin; Thread: M4; ComponentLink1Description: Manufacturer; ComponentLink1URL: http://www.we-online.de; ComponentLink2Description: Datasheet; ComponentLink2URL: https://katalog.we-online.com/em/datasheet/9774060482R.pdf; Mounting Technology: SMT; Packaging: Tape and Reel; Length: 6mm; Inner Thread Length: -; Operating Temperature: -55 to +150degC; Publisher: Wurth Elektronik; Published Date: September 2019; Material: Steel
footprint 9774060482
pins: 1

## 9774070482
designator MP?, comment M4x7mm
WA-SMSI SMT Steel Spacer, OD8.2mm, M4x7mm; Part Number: 9774070482; Inner Diameter: 5.2mm; Outer Diameter: 8.2mm; Surface: Tin; Thread: M4; ComponentLink1Description: Manufacturer; ComponentLink1URL: http://www.we-online.de; ComponentLink2Description: Datasheet; ComponentLink2URL: https://katalog.we-online.com/em/datasheet/9774070482.pdf; Mounting Technology: SMT; Packaging: Bulk; Length: 7mm; Inner Thread Length: -; Operating Temperature: -55 to +150degC; Publisher: Wurth Elektronik; Published Date: September 2019; Material: Steel
footprint 9774070482
pins: 1

## 9774070482R
designator MP?, comment M4x7mm
WA-SMSI SMT Steel Spacer, OD8.2mm, M4x7mm; Part Number: 9774070482R; Inner Diameter: 5.2mm; Outer Diameter: 8.2mm; Surface: Tin; Thread: M4; ComponentLink1Description: Manufacturer; ComponentLink1URL: http://www.we-online.de; ComponentLink2Description: Datasheet; ComponentLink2URL: https://katalog.we-online.com/em/datasheet/9774070482R.pdf; Mounting Technology: SMT; Packaging: Tape and Reel; Length: 7mm; Inner Thread Length: -; Operating Temperature: -55 to +150degC; Publisher: Wurth Elektronik; Published Date: September 2019; Material: Steel
footprint 9774070482
pins: 1

## 9774080482
designator MP?, comment M4x8mm
WA-SMSI SMT Steel Spacer, OD8.2mm, M4x8mm; Part Number: 9774080482; Inner Diameter: 5.2mm; Outer Diameter: 8.2mm; Surface: Tin; Thread: M4; ComponentLink1Description: Manufacturer; ComponentLink1URL: http://www.we-online.de; ComponentLink2Description: Datasheet; ComponentLink2URL: https://katalog.we-online.com/em/datasheet/9774080482.pdf; Mounting Technology: SMT; Packaging: Bulk; Length: 8mm; Inner Thread Length: -; Operating Temperature: -55 to +150degC; Publisher: Wurth Elektronik; Published Date: September 2019; Material: Steel
footprint 9774080482
pins: 1

## 9774080482R
designator MP?, comment M4x8mm
WA-SMSI SMT Steel Spacer, OD8.2mm, M4x8mm; Part Number: 9774080482R; Inner Diameter: 5.2mm; Outer Diameter: 8.2mm; Surface: Tin; Thread: M4; ComponentLink1Description: Manufacturer; ComponentLink1URL: http://www.we-online.de; ComponentLink2Description: Datasheet; ComponentLink2URL: https://katalog.we-online.com/em/datasheet/9774080482R.pdf; Mounting Technology: SMT; Packaging: Tape and Reel; Length: 8mm; Inner Thread Length: -; Operating Temperature: -55 to +150degC; Publisher: Wurth Elektronik; Published Date: September 2019; Material: Steel
footprint 9774080482
pins: 1

## 9774090482
designator MP?, comment M4x9mm
WA-SMSI SMT Steel Spacer, OD8.2mm, M4x9mm; Part Number: 9774090482; Inner Diameter: 5.2mm; Outer Diameter: 8.2mm; Surface: Tin; Thread: M4; ComponentLink1Description: Manufacturer; ComponentLink1URL: http://www.we-online.de; ComponentLink2Description: Datasheet; ComponentLink2URL: https://katalog.we-online.com/em/datasheet/9774090482.pdf; Mounting Technology: SMT; Packaging: Bulk; Length: 9mm; Inner Thread Length: -; Operating Temperature: -55 to +150degC; Publisher: Wurth Elektronik; Published Date: September 2019; Material: Steel
footprint 9774090482
pins: 1

## 9774090482R
designator MP?, comment M4x9mm
WA-SMSI SMT Steel Spacer, OD8.2mm, M4x9mm; Part Number: 9774090482R; Inner Diameter: 5.2mm; Outer Diameter: 8.2mm; Surface: Tin; Thread: M4; ComponentLink1Description: Manufacturer; ComponentLink1URL: http://www.we-online.de; ComponentLink2Description: Datasheet; ComponentLink2URL: https://katalog.we-online.com/em/datasheet/9774090482R.pdf; Mounting Technology: SMT; Packaging: Tape and Reel; Length: 9mm; Inner Thread Length: -; Operating Temperature: -55 to +150degC; Publisher: Wurth Elektronik; Published Date: September 2019; Material: Steel
footprint 9774090482
pins: 1

## 9774100482
designator MP?, comment M4x10mm
WA-SMSI SMT Steel Spacer, OD8.2mm, M4x10mm; Part Number: 9774100482; Inner Diameter: 5.2mm; Outer Diameter: 8.2mm; Surface: Tin; Thread: M4; ComponentLink1Description: Manufacturer; ComponentLink1URL: http://www.we-online.de; ComponentLink2Description: Datasheet; ComponentLink2URL: https://katalog.we-online.com/em/datasheet/9774100482.pdf; Mounting Technology: SMT; Packaging: Bulk; Length: 10mm; Inner Thread Length: -; Operating Temperature: -55 to +150degC; Publisher: Wurth Elektronik; Published Date: September 2019; Material: Steel
footprint 9774100482
pins: 1

## 9774100482R
designator MP?, comment M4x10mm
WA-SMSI SMT Steel Spacer, OD8.2mm, M4x10mm; Part Number: 9774100482R; Inner Diameter: 5.2mm; Outer Diameter: 8.2mm; Surface: Tin; Thread: M4; ComponentLink1Description: Manufacturer; ComponentLink1URL: http://www.we-online.de; ComponentLink2Description: Datasheet; ComponentLink2URL: https://katalog.we-online.com/em/datasheet/9774100482R.pdf; Mounting Technology: SMT; Packaging: Tape and Reel; Length: 10mm; Inner Thread Length: -; Operating Temperature: -55 to +150degC; Publisher: Wurth Elektronik; Published Date: September 2019; Material: Steel
footprint 9774100482
pins: 1